# Altium schematic symbol library MAX5719GSD+.SchLib: 1 symbol
Pins are listed as number, name and electrical type; pins without a type are passive.

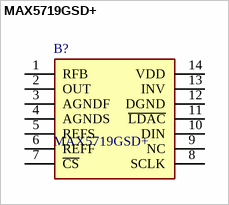
[diagram p0: symbol MAX5719GSD+]

## MAX5719GSD+
designator B?
20-Bit Voltage DAC 5V 50MHz SPI SOIC14; Manufacturer_Name: Analog Devices; Geometry.Height: 1.75mm; Mouser Part Number: 700-MAX5719GSD+; Mouser Price/Stock: https://www.mouser.co.uk/ProductDetail/Maxim-Integrated/MAX5719GSD%2b?qs=AfeIN4OqR0AnoTrmfGA2Mg%3D%3D; Manufacturer_Part_Number: MAX5719GSD+; Datasheet Link: https://componentsearchengine.com/Datasheets/2/MAX5719GSD+.pdf
footprint SOIC127P600X175-14N
pins: 1 RFB, 2 OUT, 3 AGNDF, 4 AGNDS, 5 REFS, 6 REFF, 7 ~{CS}, 8 SCLK, 9 NC, 10 DIN, 11 ~{LDAC}, 12 DGND, 13 INV, 14 VDD